# EAGLE library part TVS0500DRVR (library TVS0500DRVR)
5V Flat-Clamp Surge Protection Device Source: Datasheet <http://www.ti.com/lit/gpn/tvs0500>
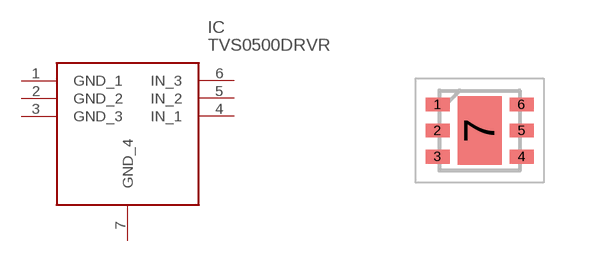
[diagram p0: symbol with the pads of SON65P200X200X80-7N; footprint SON65P200X200X80-7N]

Designator prefix IC

## TVS0500DRVR (Arrow_Part_Number: TVS0500DRVR; Arrow_Price-Stock: https://www.arrow.com/en/products/tvs0500drvr/texas-instruments?region=europe; Description: 5V Flat-Clamp Surge Protection Device; Height: 0.8mm; Manufacturer_Name: Texas Instruments; Manufacturer_Part_Number: TVS0500DRVR; Mouser_Part_Number: 595-TVS0500DRVR; Mouser_Price-Stock: https://www.mouser.co.uk/ProductDetail/Texas-Instruments/TVS0500DRVR?qs=W0yvOO0ixfE%252BATlQ17YkMw%3D%3D)  [SON65P200X200X80-7N]
1  GND_1
2  GND_2
3  GND_3
4  IN_1
5  IN_2
6  IN_3
7  GND_4

## Footprint SON65P200X200X80-7N (pad centres in mm)
TVS0500DRVR-1
smd 0.6 x 0.35: 1 -1.05,0.65; 2 -1.05,0; 3 -1.05,-0.65; 4 1.05,-0.65; 5 1.05,0; 6 1.05,0.65
smd 1.1 x 1.7: 7 0,0